# EAGLE library part ATSAM2195 (library ModernDevice)
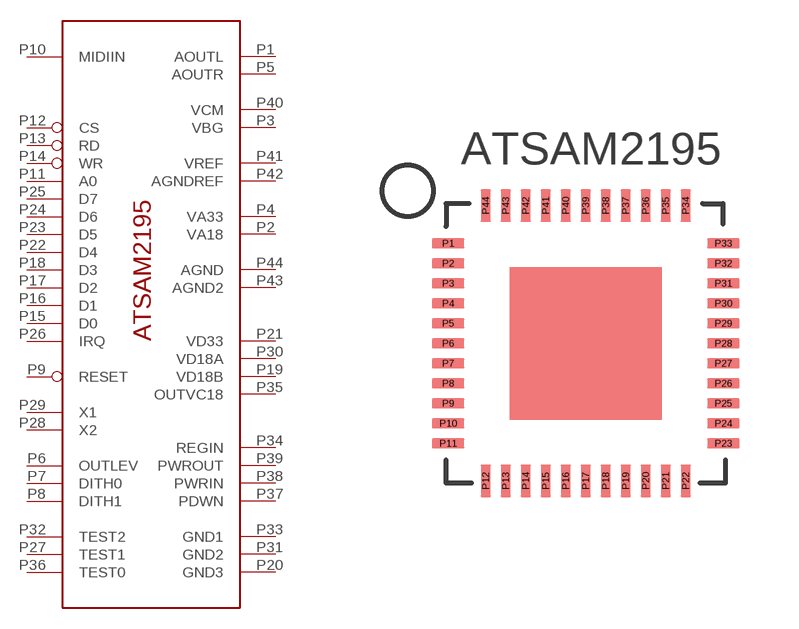
[diagram p0: symbol with the pads of ATSAM2195; footprint ATSAM2195]

Designator prefix -

## ATSAM2195  [ATSAM2195]
P1  AOUTL
P2  VA18
P3  VBG
P4  VA33
P5  AOUTR
P6  OUTLEV
P7  DITH0
P8  DITH1
P9  RESET
P10  MIDIIN
P11  A0
P12  CS
P13  RD
P14  WR
P15  D0
P16  D1
P17  D2
P18  D3
P19  VD18B
P20  GND3
P21  VD33
P22  D4
P23  D5
P24  D6
P25  D7
P26  IRQ
P27  TEST1
P28  X2
P29  X1
P30  VD18A
P31  GND2
P32  TEST2
P33  GND1
P34  REGIN
P35  OUTVC18
P36  TEST0
P37  PDWN
P38  PWRIN
P39  PWROUT
P40  VCM
P41  VREF
P42  AGNDREF
P43  AGND2
P44  AGND

## Footprint ATSAM2195 (pad centres in mm)
smd 0.813 x 0.254: P1 -3.441,2.5; P2 -3.441,2; P3 -3.441,1.5; P4 -3.441,1; P5 -3.441,0.5; P6 -3.441,0; P7 -3.441,-0.5; P8 -3.441,-1; P9 -3.441,-1.5; P10 -3.441,-2; P11 -3.441,-2.5; P23 3.441,-2.5; P24 3.441,-2; P25 3.441,-1.5; P26 3.441,-1; P27 3.441,-0.5; P28 3.441,0; P29 3.441,0.5; P30 3.441,1; P31 3.441,1.5; P32 3.441,2; P33 3.441,2.5
smd 0.254 x 0.813: P12 -2.5,-3.441; P13 -2,-3.441; P14 -1.5,-3.441; P15 -1,-3.441; P16 -0.5,-3.441; P17 0,-3.441; P18 0.5,-3.441; P19 1,-3.441; P20 1.5,-3.441; P21 2,-3.441; P22 2.5,-3.441; P34 2.5,3.441; P35 2,3.441; P36 1.5,3.441; P37 1,3.441; P38 0.5,3.441; P39 0,3.441; P40 -0.5,3.441; P41 -1,3.441; P42 -1.5,3.441; P43 -2,3.441; P44 -2.5,3.441